# Altium footprint library TerminalBlock_MetzConnect.PcbLib: 61 footprints (part 4 of 4)
Each footprint in its own frame and in the unit in brackets; x right, y up, seen from the top. Pads: shape width x height; smd on the part's side, far side on the other; paste and mask are expansions set on the pad; w line width, h text height; cw(c..) or ccw(c..) is an arc to the next point about the centre after c.
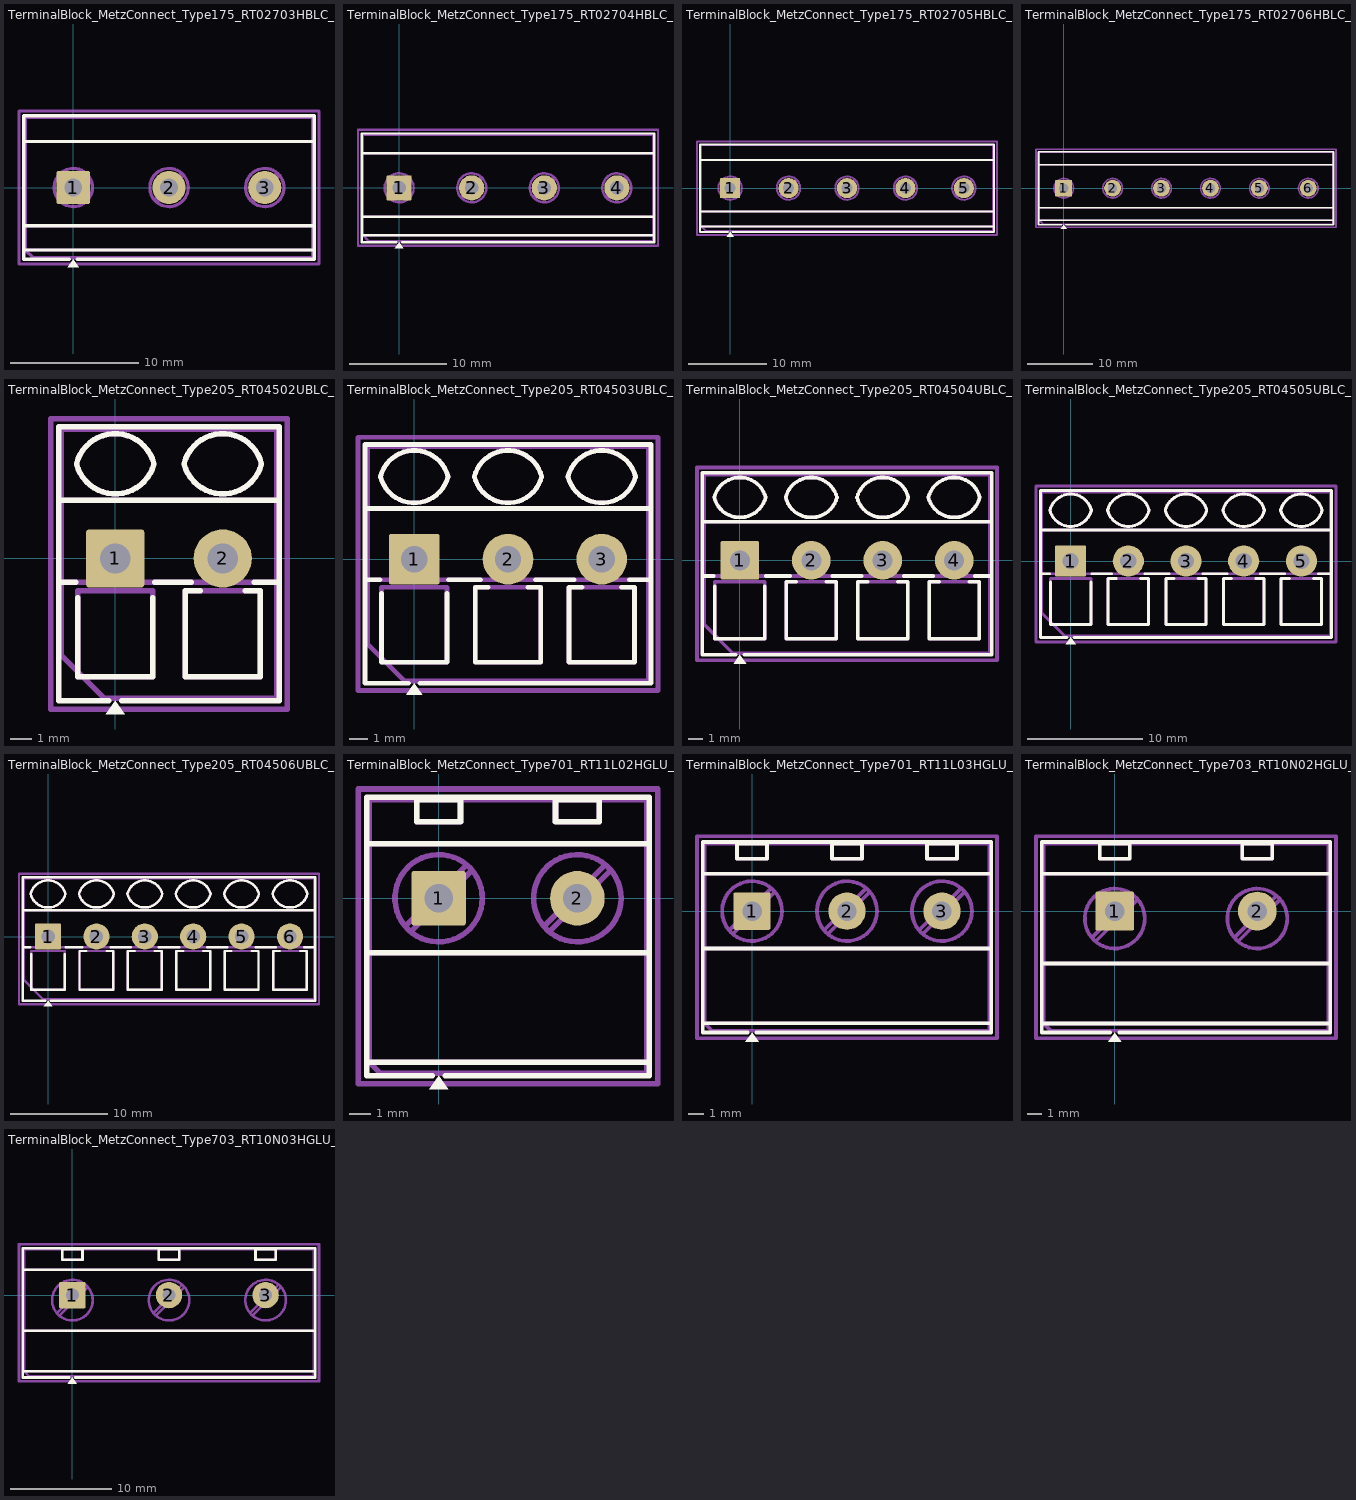
[diagram p3: the footprints below, top view; thin cyan lines are the x and y axes]

## TerminalBlock_MetzConnect_Type175_RT02703HBLC_1x03_P7.50mm_Horizontal [mm]
pads (3):
  rrect10% 2.6x2.6 hole 1.4: 1(0,0)
  round 2.6 hole 1.4: 2(7.5,0) 3(15,0)
F.SilkS:
  region: 0.44,-6.23 -0.44,-6.23 0,-5.62
  lines w0.254: -3.87,-4.9 18.87,-4.9 ; -3.87,-3 18.87,-3 ; -3.87,3.6 18.87,3.6 ; -0.3,-5.62 -3.87,-5.62 -3.87,5.62 18.87,5.62 18.87,-5.62 0.3,-5.62
F.Fab:
  circle w0.254: c0,0 r1.5
  circle w0.254: c7.5,0 r1.5
  circle w0.254: c15,0 r1.5
  lines w0.254: -3.75,-3 18.75,-3 ; -3.75,3.6 18.75,3.6 ; -1.138,-0.955 0.955,1.138 ; -0.955,-1.138 1.138,0.955 ; 6.362,-0.955 8.455,1.138 ; 6.545,-1.138 8.638,0.955 ; 13.862,-0.955 15.955,1.138 ; 14.045,-1.138 16.138,0.955 ; 18.75,-4.9 -3.75,-4.9 ; -3.75,-4.9 -3.75,5.5 18.75,5.5 18.75,-5.5 -3.15,-5.5 -3.75,-4.9
  text "'.Designator'" at 3.453,-4.84 h1
F.CrtYd:
  lines w0.254: -4.25,-6 -4.25,6 19.25,6 19.25,-6 -4.25,-6

## TerminalBlock_MetzConnect_Type175_RT02704HBLC_1x04_P7.50mm_Horizontal [mm]
pads (4):
  rrect10% 2.6x2.6 hole 1.4: 1(0,0)
  round 2.6 hole 1.4: 2(7.5,0) 3(15,0) 4(22.5,0)
F.SilkS:
  region: 0.44,-6.23 -0.44,-6.23 0,-5.62
  lines w0.254: -3.87,-4.9 26.37,-4.9 ; -3.87,-3 26.37,-3 ; -3.87,3.6 26.37,3.6 ; -0.3,-5.62 -3.87,-5.62 -3.87,5.62 26.37,5.62 26.37,-5.62 0.3,-5.62
F.Fab:
  circle w0.254: c0,0 r1.5
  circle w0.254: c7.5,0 r1.5
  circle w0.254: c15,0 r1.5
  circle w0.254: c22.5,0 r1.5
  lines w0.254: -3.75,-3 26.25,-3 ; -3.75,3.6 26.25,3.6 ; -1.138,-0.955 0.955,1.138 ; -0.955,-1.138 1.138,0.955 ; 6.362,-0.955 8.455,1.138 ; 6.545,-1.138 8.638,0.955 ; 13.862,-0.955 15.955,1.138 ; 14.045,-1.138 16.138,0.955 ; 21.362,-0.955 23.455,1.138 ; 21.545,-1.138 23.638,0.955 ; 26.25,-4.9 -3.75,-4.9 ; -3.75,-4.9 -3.75,5.5 26.25,5.5 26.25,-5.5 -3.15,-5.5 -3.75,-4.9
  text "'.Designator'" at 7.203,-4.84 h1
F.CrtYd:
  lines w0.254: -4.25,-6 -4.25,6 26.75,6 26.75,-6 -4.25,-6

## TerminalBlock_MetzConnect_Type175_RT02705HBLC_1x05_P7.50mm_Horizontal [mm]
pads (5):
  rrect10% 2.6x2.6 hole 1.4: 1(0,0)
  round 2.6 hole 1.4: 2(7.5,0) 3(15,0) 4(22.5,0) 5(30,0)
F.SilkS:
  region: 0.44,-6.23 -0.44,-6.23 0,-5.62
  lines w0.254: -3.87,-4.9 33.87,-4.9 ; -3.87,-3 33.87,-3 ; -3.87,3.6 33.87,3.6 ; -0.3,-5.62 -3.87,-5.62 -3.87,5.62 33.87,5.62 33.87,-5.62 0.3,-5.62
F.Fab:
  circle w0.254: c0,0 r1.5
  circle w0.254: c7.5,0 r1.5
  circle w0.254: c15,0 r1.5
  circle w0.254: c22.5,0 r1.5
  circle w0.254: c30,0 r1.5
  lines w0.254: -3.75,-3 33.75,-3 ; -3.75,3.6 33.75,3.6 ; -1.138,-0.955 0.955,1.138 ; -0.955,-1.138 1.138,0.955 ; 6.362,-0.955 8.455,1.138 ; 6.545,-1.138 8.638,0.955 ; 13.862,-0.955 15.955,1.138 ; 14.045,-1.138 16.138,0.955 ; 21.362,-0.955 23.455,1.138 ; 21.545,-1.138 23.638,0.955 ; 28.862,-0.955 30.955,1.138 ; 29.045,-1.138 31.138,0.955 ; 33.75,-4.9 -3.75,-4.9 ; -3.75,-4.9 -3.75,5.5 33.75,5.5 33.75,-5.5 -3.15,-5.5 -3.75,-4.9
  text "'.Designator'" at 10.953,-4.84 h1
F.CrtYd:
  lines w0.254: -4.25,-6 -4.25,6 34.25,6 34.25,-6 -4.25,-6

## TerminalBlock_MetzConnect_Type175_RT02706HBLC_1x06_P7.50mm_Horizontal [mm]
pads (6):
  rrect10% 2.6x2.6 hole 1.4: 1(0,0)
  round 2.6 hole 1.4: 2(7.5,0) 3(15,0) 4(22.5,0) 5(30,0) 6(37.5,0)
F.SilkS:
  region: 0.44,-6.23 -0.44,-6.23 0,-5.62
  lines w0.254: -3.87,-4.9 41.37,-4.9 ; -3.87,-3 41.37,-3 ; -3.87,3.6 41.37,3.6 ; -0.3,-5.62 -3.87,-5.62 -3.87,5.62 41.37,5.62 41.37,-5.62 0.3,-5.62
F.Fab:
  circle w0.254: c0,0 r1.5
  circle w0.254: c7.5,0 r1.5
  circle w0.254: c15,0 r1.5
  circle w0.254: c22.5,0 r1.5
  circle w0.254: c30,0 r1.5
  circle w0.254: c37.5,0 r1.5
  lines w0.254: -3.75,-3 41.25,-3 ; -3.75,3.6 41.25,3.6 ; -1.138,-0.955 0.955,1.138 ; -0.955,-1.138 1.138,0.955 ; 6.362,-0.955 8.455,1.138 ; 6.545,-1.138 8.638,0.955 ; 13.862,-0.955 15.955,1.138 ; 14.045,-1.138 16.138,0.955 ; 21.362,-0.955 23.455,1.138 ; 21.545,-1.138 23.638,0.955 ; 28.862,-0.955 30.955,1.138 ; 29.045,-1.138 31.138,0.955 ; 36.362,-0.955 38.455,1.138 ; 36.545,-1.138 38.638,0.955 ; 41.25,-4.9 -3.75,-4.9 ; -3.75,-4.9 -3.75,5.5 41.25,5.5 41.25,-5.5 -3.15,-5.5 -3.75,-4.9
  text "'.Designator'" at 14.703,-4.84 h1
F.CrtYd:
  lines w0.254: -4.25,-6 -4.25,6 41.75,6 41.75,-6 -4.25,-6

## TerminalBlock_MetzConnect_Type205_RT04502UBLC_1x02_P5.00mm_45Degree [mm]
pads (2):
  rrect9% 2.7x2.7 hole 1.4: 1(0,0)
  round 2.7 hole 1.4: 2(5,0)
F.SilkS:
  region: 0.44,-7.23 -0.44,-7.23 0,-6.62
  lines w0.254: -2.62,-1.1 -1.83,-1.1 ; -2.62,2.7 7.62,2.7 ; -1.75,-1.83 -1.75,-5.5 1.75,-5.5 1.75,-1.83 ; -0.3,-6.62 -2.62,-6.62 -2.62,6.12 7.62,6.12 7.62,-6.62 0.3,-6.62 ; 1.83,-1.1 3.538,-1.1 ; 3.952,-1.5 3.25,-1.5 3.25,-5.5 6.75,-5.5 6.75,-1.5 6.048,-1.5 ; 6.462,-1.1 7.62,-1.1 ; -1.8,4.4 cw(c0,3.943) 1.8,4.4 cw(c0,4.857) -1.8,4.4 ; 3.2,4.4 cw(c5,3.943) 6.8,4.4 cw(c5,4.857) 3.2,4.4
F.Fab:
  lines w0.254: -2.5,-1.1 7.5,-1.1 ; -2.5,2.7 7.5,2.7 ; -2.5,-4.5 -2.5,6 7.5,6 7.5,-6.5 -0.5,-6.5 -2.5,-4.5 ; -1.8,4.4 cw(c0,3.943) 1.8,4.4 cw(c0,4.857) -1.8,4.4 ; -1.75,-5.5 -1.75,-1.5 1.75,-1.5 1.75,-5.5 -1.75,-5.5 ; 3.2,4.4 cw(c5,3.943) 6.8,4.4 cw(c5,4.857) 3.2,4.4 ; 3.25,-5.5 3.25,-1.5 6.75,-1.5 6.75,-5.5 3.25,-5.5
  text "'.Designator'" at -1.547,-0.09 h1
F.CrtYd:
  lines w0.254: -3,-7 -3,6.5 8,6.5 8,-7 -3,-7

## TerminalBlock_MetzConnect_Type205_RT04503UBLC_1x03_P5.00mm_45Degree [mm]
pads (3):
  rrect9% 2.7x2.7 hole 1.4: 1(0,0)
  round 2.7 hole 1.4: 2(5,0) 3(10,0)
F.SilkS:
  region: 0.44,-7.23 -0.44,-7.23 0,-6.62
  lines w0.254: -2.62,-1.1 -1.83,-1.1 ; -2.62,2.7 12.62,2.7 ; -1.75,-1.83 -1.75,-5.5 1.75,-5.5 1.75,-1.83 ; -0.3,-6.62 -2.62,-6.62 -2.62,6.12 12.62,6.12 12.62,-6.62 0.3,-6.62 ; 1.83,-1.1 3.538,-1.1 ; 3.952,-1.5 3.25,-1.5 3.25,-5.5 6.75,-5.5 6.75,-1.5 6.048,-1.5 ; 6.462,-1.1 8.538,-1.1 ; 8.952,-1.5 8.25,-1.5 8.25,-5.5 11.75,-5.5 11.75,-1.5 11.048,-1.5 ; 11.462,-1.1 12.62,-1.1 ; -1.8,4.4 cw(c0,3.943) 1.8,4.4 cw(c0,4.857) -1.8,4.4 ; 3.2,4.4 cw(c5,3.943) 6.8,4.4 cw(c5,4.857) 3.2,4.4 ; 8.2,4.4 cw(c10,3.943) 11.8,4.4 cw(c10,4.857) 8.2,4.4
F.Fab:
  lines w0.254: -2.5,-1.1 12.5,-1.1 ; -2.5,2.7 12.5,2.7 ; -2.5,-4.5 -2.5,6 12.5,6 12.5,-6.5 -0.5,-6.5 -2.5,-4.5 ; -1.8,4.4 cw(c0,3.943) 1.8,4.4 cw(c0,4.857) -1.8,4.4 ; -1.75,-5.5 -1.75,-1.5 1.75,-1.5 1.75,-5.5 -1.75,-5.5 ; 3.2,4.4 cw(c5,3.943) 6.8,4.4 cw(c5,4.857) 3.2,4.4 ; 3.25,-5.5 3.25,-1.5 6.75,-1.5 6.75,-5.5 3.25,-5.5 ; 8.2,4.4 cw(c10,3.943) 11.8,4.4 cw(c10,4.857) 8.2,4.4 ; 8.25,-5.5 8.25,-1.5 11.75,-1.5 11.75,-5.5 8.25,-5.5
  text "'.Designator'" at 0.953,-0.09 h1
F.CrtYd:
  lines w0.254: -3,-7 -3,6.5 13,6.5 13,-7 -3,-7

## TerminalBlock_MetzConnect_Type205_RT04504UBLC_1x04_P5.00mm_45Degree [mm]
pads (4):
  rrect9% 2.7x2.7 hole 1.4: 1(0,0)
  round 2.7 hole 1.4: 2(5,0) 3(10,0) 4(15,0)
F.SilkS:
  region: 0.44,-7.23 -0.44,-7.23 0,-6.62
  lines w0.254: -2.62,-1.1 -1.83,-1.1 ; -2.62,2.7 17.62,2.7 ; -1.75,-1.83 -1.75,-5.5 1.75,-5.5 1.75,-1.83 ; -0.3,-6.62 -2.62,-6.62 -2.62,6.12 17.62,6.12 17.62,-6.62 0.3,-6.62 ; 1.83,-1.1 3.538,-1.1 ; 3.952,-1.5 3.25,-1.5 3.25,-5.5 6.75,-5.5 6.75,-1.5 6.048,-1.5 ; 6.462,-1.1 8.538,-1.1 ; 8.952,-1.5 8.25,-1.5 8.25,-5.5 11.75,-5.5 11.75,-1.5 11.048,-1.5 ; 11.462,-1.1 13.538,-1.1 ; 13.952,-1.5 13.25,-1.5 13.25,-5.5 16.75,-5.5 16.75,-1.5 16.048,-1.5 ; 16.462,-1.1 17.62,-1.1 ; -1.8,4.4 cw(c0,3.943) 1.8,4.4 cw(c0,4.857) -1.8,4.4 ; 3.2,4.4 cw(c5,3.943) 6.8,4.4 cw(c5,4.857) 3.2,4.4 ; 8.2,4.4 cw(c10,3.943) 11.8,4.4 cw(c10,4.857) 8.2,4.4 ; 13.2,4.4 cw(c15,3.943) 16.8,4.4 cw(c15,4.857) 13.2,4.4
F.Fab:
  lines w0.254: -2.5,-1.1 17.5,-1.1 ; -2.5,2.7 17.5,2.7 ; -2.5,-4.5 -2.5,6 17.5,6 17.5,-6.5 -0.5,-6.5 -2.5,-4.5 ; -1.8,4.4 cw(c0,3.943) 1.8,4.4 cw(c0,4.857) -1.8,4.4 ; -1.75,-5.5 -1.75,-1.5 1.75,-1.5 1.75,-5.5 -1.75,-5.5 ; 3.2,4.4 cw(c5,3.943) 6.8,4.4 cw(c5,4.857) 3.2,4.4 ; 3.25,-5.5 3.25,-1.5 6.75,-1.5 6.75,-5.5 3.25,-5.5 ; 8.2,4.4 cw(c10,3.943) 11.8,4.4 cw(c10,4.857) 8.2,4.4 ; 8.25,-5.5 8.25,-1.5 11.75,-1.5 11.75,-5.5 8.25,-5.5 ; 13.2,4.4 cw(c15,3.943) 16.8,4.4 cw(c15,4.857) 13.2,4.4 ; 13.25,-5.5 13.25,-1.5 16.75,-1.5 16.75,-5.5 13.25,-5.5
  text "'.Designator'" at 3.453,-0.09 h1
F.CrtYd:
  lines w0.254: -3,-7 -3,6.5 18,6.5 18,-7 -3,-7

## TerminalBlock_MetzConnect_Type205_RT04505UBLC_1x05_P5.00mm_45Degree [mm]
pads (5):
  rrect9% 2.7x2.7 hole 1.4: 1(0,0)
  round 2.7 hole 1.4: 2(5,0) 3(10,0) 4(15,0) 5(20,0)
F.SilkS:
  region: 0.44,-7.23 -0.44,-7.23 0,-6.62
  lines w0.254: -2.62,-1.1 -1.83,-1.1 ; -2.62,2.7 22.62,2.7 ; -1.75,-1.83 -1.75,-5.5 1.75,-5.5 1.75,-1.83 ; -0.3,-6.62 -2.62,-6.62 -2.62,6.12 22.62,6.12 22.62,-6.62 0.3,-6.62 ; 1.83,-1.1 3.538,-1.1 ; 3.952,-1.5 3.25,-1.5 3.25,-5.5 6.75,-5.5 6.75,-1.5 6.048,-1.5 ; 6.462,-1.1 8.538,-1.1 ; 8.952,-1.5 8.25,-1.5 8.25,-5.5 11.75,-5.5 11.75,-1.5 11.048,-1.5 ; 11.462,-1.1 13.538,-1.1 ; 13.952,-1.5 13.25,-1.5 13.25,-5.5 16.75,-5.5 16.75,-1.5 16.048,-1.5 ; 16.462,-1.1 18.538,-1.1 ; 18.952,-1.5 18.25,-1.5 18.25,-5.5 21.75,-5.5 21.75,-1.5 21.048,-1.5 ; 21.462,-1.1 22.62,-1.1 ; -1.8,4.4 cw(c0,3.943) 1.8,4.4 cw(c0,4.857) -1.8,4.4 ; 3.2,4.4 cw(c5,3.943) 6.8,4.4 cw(c5,4.857) 3.2,4.4 ; 8.2,4.4 cw(c10,3.943) 11.8,4.4 cw(c10,4.857) 8.2,4.4 ; 13.2,4.4 cw(c15,3.943) 16.8,4.4 cw(c15,4.857) 13.2,4.4 ; 18.2,4.4 cw(c20,3.943) 21.8,4.4 cw(c20,4.857) 18.2,4.4
F.Fab:
  lines w0.254: -2.5,-1.1 22.5,-1.1 ; -2.5,2.7 22.5,2.7 ; -2.5,-4.5 -2.5,6 22.5,6 22.5,-6.5 -0.5,-6.5 -2.5,-4.5 ; -1.8,4.4 cw(c0,3.943) 1.8,4.4 cw(c0,4.857) -1.8,4.4 ; -1.75,-5.5 -1.75,-1.5 1.75,-1.5 1.75,-5.5 -1.75,-5.5 ; 3.2,4.4 cw(c5,3.943) 6.8,4.4 cw(c5,4.857) 3.2,4.4 ; 3.25,-5.5 3.25,-1.5 6.75,-1.5 6.75,-5.5 3.25,-5.5 ; 8.2,4.4 cw(c10,3.943) 11.8,4.4 cw(c10,4.857) 8.2,4.4 ; 8.25,-5.5 8.25,-1.5 11.75,-1.5 11.75,-5.5 8.25,-5.5 ; 13.2,4.4 cw(c15,3.943) 16.8,4.4 cw(c15,4.857) 13.2,4.4 ; 13.25,-5.5 13.25,-1.5 16.75,-1.5 16.75,-5.5 13.25,-5.5 ; 18.2,4.4 cw(c20,3.943) 21.8,4.4 cw(c20,4.857) 18.2,4.4 ; 18.25,-5.5 18.25,-1.5 21.75,-1.5 21.75,-5.5 18.25,-5.5
  text "'.Designator'" at 5.953,-0.09 h1
F.CrtYd:
  lines w0.254: -3,-7 -3,6.5 23,6.5 23,-7 -3,-7

## TerminalBlock_MetzConnect_Type205_RT04506UBLC_1x06_P5.00mm_45Degree [mm]
pads (6):
  rrect9% 2.7x2.7 hole 1.4: 1(0,0)
  round 2.7 hole 1.4: 2(5,0) 3(10,0) 4(15,0) 5(20,0) 6(25,0)
F.SilkS:
  region: 0.44,-7.23 -0.44,-7.23 0,-6.62
  lines w0.254: -2.62,-1.1 -1.83,-1.1 ; -2.62,2.7 27.62,2.7 ; -1.75,-1.83 -1.75,-5.5 1.75,-5.5 1.75,-1.83 ; -0.3,-6.62 -2.62,-6.62 -2.62,6.12 27.62,6.12 27.62,-6.62 0.3,-6.62 ; 1.83,-1.1 3.538,-1.1 ; 3.952,-1.5 3.25,-1.5 3.25,-5.5 6.75,-5.5 6.75,-1.5 6.048,-1.5 ; 6.462,-1.1 8.538,-1.1 ; 8.952,-1.5 8.25,-1.5 8.25,-5.5 11.75,-5.5 11.75,-1.5 11.048,-1.5 ; 11.462,-1.1 13.538,-1.1 ; 13.952,-1.5 13.25,-1.5 13.25,-5.5 16.75,-5.5 16.75,-1.5 16.048,-1.5 ; 16.462,-1.1 18.538,-1.1 ; 18.952,-1.5 18.25,-1.5 18.25,-5.5 21.75,-5.5 21.75,-1.5 21.048,-1.5 ; 21.462,-1.1 23.538,-1.1 ; 23.952,-1.5 23.25,-1.5 23.25,-5.5 26.75,-5.5 26.75,-1.5 26.048,-1.5 ; 26.462,-1.1 27.62,-1.1 ; -1.8,4.4 cw(c0,3.943) 1.8,4.4 cw(c0,4.857) -1.8,4.4 ; 3.2,4.4 cw(c5,3.943) 6.8,4.4 cw(c5,4.857) 3.2,4.4 ; 8.2,4.4 cw(c10,3.943) 11.8,4.4 cw(c10,4.857) 8.2,4.4 ; 13.2,4.4 cw(c15,3.943) 16.8,4.4 cw(c15,4.857) 13.2,4.4 ; 18.2,4.4 cw(c20,3.943) 21.8,4.4 cw(c20,4.857) 18.2,4.4 ; 23.2,4.4 cw(c25,3.943) 26.8,4.4 cw(c25,4.857) 23.2,4.4
F.Fab:
  lines w0.254: -2.5,-1.1 27.5,-1.1 ; -2.5,2.7 27.5,2.7 ; -2.5,-4.5 -2.5,6 27.5,6 27.5,-6.5 -0.5,-6.5 -2.5,-4.5 ; -1.8,4.4 cw(c0,3.943) 1.8,4.4 cw(c0,4.857) -1.8,4.4 ; -1.75,-5.5 -1.75,-1.5 1.75,-1.5 1.75,-5.5 -1.75,-5.5 ; 3.2,4.4 cw(c5,3.943) 6.8,4.4 cw(c5,4.857) 3.2,4.4 ; 3.25,-5.5 3.25,-1.5 6.75,-1.5 6.75,-5.5 3.25,-5.5 ; 8.2,4.4 cw(c10,3.943) 11.8,4.4 cw(c10,4.857) 8.2,4.4 ; 8.25,-5.5 8.25,-1.5 11.75,-1.5 11.75,-5.5 8.25,-5.5 ; 13.2,4.4 cw(c15,3.943) 16.8,4.4 cw(c15,4.857) 13.2,4.4 ; 13.25,-5.5 13.25,-1.5 16.75,-1.5 16.75,-5.5 13.25,-5.5 ; 18.2,4.4 cw(c20,3.943) 21.8,4.4 cw(c20,4.857) 18.2,4.4 ; 18.25,-5.5 18.25,-1.5 21.75,-1.5 21.75,-5.5 18.25,-5.5 ; 23.2,4.4 cw(c25,3.943) 26.8,4.4 cw(c25,4.857) 23.2,4.4 ; 23.25,-5.5 23.25,-1.5 26.75,-1.5 26.75,-5.5 23.25,-5.5
  text "'.Designator'" at 8.453,-0.09 h1
F.CrtYd:
  lines w0.254: -3,-7 -3,6.5 28,6.5 28,-7 -3,-7

## TerminalBlock_MetzConnect_Type701_RT11L02HGLU_1x02_P6.35mm_Horizontal [mm]
pads (2):
  rrect10% 2.5x2.5 hole 1.3: 1(0,0)
  round 2.5 hole 1.3: 2(6.35,0)
F.SilkS:
  region: 0.44,-8.73 -0.44,-8.73 0,-8.12
  lines w0.254: -3.295,-7.5 9.645,-7.5 ; -3.295,-2.5 9.645,-2.5 ; -3.295,2.5 9.645,2.5 ; -0.3,-8.12 -3.295,-8.12 -3.295,4.62 9.645,4.62 9.645,-8.12 0.3,-8.12 ; -1,3.5 -1,4.5 1,4.5 1,3.5 -1,3.5 ; 5.35,3.5 5.35,4.5 7.35,4.5 7.35,3.5 5.35,3.5
F.Fab:
  circle w0.254: c0,0 r2
  circle w0.254: c6.35,0 r2
  lines w0.254: -3.175,-2.5 9.525,-2.5 ; -3.175,2.5 9.525,2.5 ; -1.517,-1.273 1.273,1.517 ; -1.273,-1.517 1.517,1.273 ; 4.833,-1.273 7.623,1.517 ; 5.077,-1.517 7.867,1.273 ; 9.525,-7.5 -3.175,-7.5 ; -3.175,-7.5 -3.175,4.5 9.525,4.5 9.525,-8 -2.675,-8 -3.175,-7.5 ; -1,3.5 -1,4.5 1,4.5 1,3.5 -1,3.5 ; 5.35,3.5 5.35,4.5 7.35,4.5 7.35,3.5 5.35,3.5
  text "'.Designator'" at -0.872,-6.09 h1
F.CrtYd:
  lines w0.254: -3.68,-8.5 -3.68,5 10.03,5 10.03,-8.5 -3.68,-8.5

## TerminalBlock_MetzConnect_Type701_RT11L03HGLU_1x03_P6.35mm_Horizontal [mm]
pads (3):
  rrect10% 2.5x2.5 hole 1.3: 1(0,0)
  round 2.5 hole 1.3: 2(6.35,0) 3(12.7,0)
F.SilkS:
  region: 0.44,-8.73 -0.44,-8.73 0,-8.12
  lines w0.254: -3.295,-7.5 15.995,-7.5 ; -3.295,-2.5 15.995,-2.5 ; -3.295,2.5 15.995,2.5 ; -0.3,-8.12 -3.295,-8.12 -3.295,4.62 15.995,4.62 15.995,-8.12 0.3,-8.12 ; -1,3.5 -1,4.5 1,4.5 1,3.5 -1,3.5 ; 5.35,3.5 5.35,4.5 7.35,4.5 7.35,3.5 5.35,3.5 ; 11.7,3.5 11.7,4.5 13.7,4.5 13.7,3.5 11.7,3.5
F.Fab:
  circle w0.254: c0,0 r2
  circle w0.254: c6.35,0 r2
  circle w0.254: c12.7,0 r2
  lines w0.254: -3.175,-2.5 15.875,-2.5 ; -3.175,2.5 15.875,2.5 ; -1.517,-1.273 1.273,1.517 ; -1.273,-1.517 1.517,1.273 ; 4.833,-1.273 7.623,1.517 ; 5.077,-1.517 7.867,1.273 ; 11.183,-1.273 13.973,1.517 ; 11.427,-1.517 14.217,1.273 ; 15.875,-7.5 -3.175,-7.5 ; -3.175,-7.5 -3.175,4.5 15.875,4.5 15.875,-8 -2.675,-8 -3.175,-7.5 ; -1,3.5 -1,4.5 1,4.5 1,3.5 -1,3.5 ; 5.35,3.5 5.35,4.5 7.35,4.5 7.35,3.5 5.35,3.5 ; 11.7,3.5 11.7,4.5 13.7,4.5 13.7,3.5 11.7,3.5
  text "'.Designator'" at 2.303,-6.09 h1
F.CrtYd:
  lines w0.254: -3.68,-8.5 -3.68,5 16.38,5 16.38,-8.5 -3.68,-8.5

## TerminalBlock_MetzConnect_Type703_RT10N02HGLU_1x02_P9.52mm_Horizontal [mm]
pads (2):
  rrect10% 2.6x2.6 hole 1.3: 1(0,0)
  round 2.6 hole 1.3: 2(9.52,0)
F.SilkS:
  region: 0.44,-8.73 -0.44,-8.73 0,-8.12
  lines w0.254: -4.88,-7.5 14.4,-7.5 ; -4.88,-3.5 14.4,-3.5 ; -4.88,2.5 14.4,2.5 ; -0.3,-8.12 -4.88,-8.12 -4.88,4.62 14.4,4.62 14.4,-8.12 0.3,-8.12 ; -1,3.5 -1,4.5 1,4.5 1,3.5 -1,3.5 ; 8.52,3.5 8.52,4.5 10.52,4.5 10.52,3.5 8.52,3.5
F.Fab:
  circle w0.254: c0,-0.5 r2
  circle w0.254: c9.52,-0.5 r2
  lines w0.254: -4.76,-3.5 14.28,-3.5 ; -4.76,2.5 14.28,2.5 ; -1.517,-1.773 1.273,1.017 ; -1.273,-2.017 1.517,0.773 ; 8.003,-1.773 10.793,1.017 ; 8.247,-2.017 11.037,0.773 ; 14.28,-7.5 -4.76,-7.5 ; -4.76,-7.5 -4.76,4.5 14.28,4.5 14.28,-8 -4.26,-8 -4.76,-7.5 ; -1,3.5 -1,4.5 1,4.5 1,3.5 -1,3.5 ; 8.52,3.5 8.52,4.5 10.52,4.5 10.52,3.5 8.52,3.5
  text "'.Designator'" at 0.713,-6.09 h1
F.CrtYd:
  lines w0.254: -5.26,-8.5 -5.26,5 14.78,5 14.78,-8.5 -5.26,-8.5

## TerminalBlock_MetzConnect_Type703_RT10N03HGLU_1x03_P9.52mm_Horizontal [mm]
pads (3):
  rrect10% 2.6x2.6 hole 1.3: 1(0,0)
  round 2.6 hole 1.3: 2(9.52,0) 3(19.04,0)
F.SilkS:
  region: 0.44,-8.73 -0.44,-8.73 0,-8.12
  lines w0.254: -4.88,-7.5 23.92,-7.5 ; -4.88,-3.5 23.92,-3.5 ; -4.88,2.5 23.92,2.5 ; -0.3,-8.12 -4.88,-8.12 -4.88,4.62 23.92,4.62 23.92,-8.12 0.3,-8.12 ; -1,3.5 -1,4.5 1,4.5 1,3.5 -1,3.5 ; 8.52,3.5 8.52,4.5 10.52,4.5 10.52,3.5 8.52,3.5 ; 18.04,3.5 18.04,4.5 20.04,4.5 20.04,3.5 18.04,3.5
F.Fab:
  circle w0.254: c0,-0.5 r2
  circle w0.254: c9.52,-0.5 r2
  circle w0.254: c19.04,-0.5 r2
  lines w0.254: -4.76,-3.5 23.8,-3.5 ; -4.76,2.5 23.8,2.5 ; -1.517,-1.773 1.273,1.017 ; -1.273,-2.017 1.517,0.773 ; 8.003,-1.773 10.793,1.017 ; 8.247,-2.017 11.037,0.773 ; 17.523,-1.773 20.313,1.017 ; 17.767,-2.017 20.557,0.773 ; 23.8,-7.5 -4.76,-7.5 ; -4.76,-7.5 -4.76,4.5 23.8,4.5 23.8,-8 -4.26,-8 -4.76,-7.5 ; -1,3.5 -1,4.5 1,4.5 1,3.5 -1,3.5 ; 8.52,3.5 8.52,4.5 10.52,4.5 10.52,3.5 8.52,3.5 ; 18.04,3.5 18.04,4.5 20.04,4.5 20.04,3.5 18.04,3.5
  text "'.Designator'" at 5.473,-6.09 h1
F.CrtYd:
  lines w0.254: -5.26,-8.5 -5.26,5 24.3,5 24.3,-8.5 -5.26,-8.5